# Altium footprint library WREL_AD10_Ben.PcbLib: 135 footprints (part 1 of 9)
Each footprint in its own frame and in the unit in brackets; x right, y up, seen from the top. Pads: shape width x height; smd on the part's side, far side on the other; paste and mask are expansions set on the pad; w line width, h text height; cw(c..) or ccw(c..) is an arc to the next point about the centre after c.
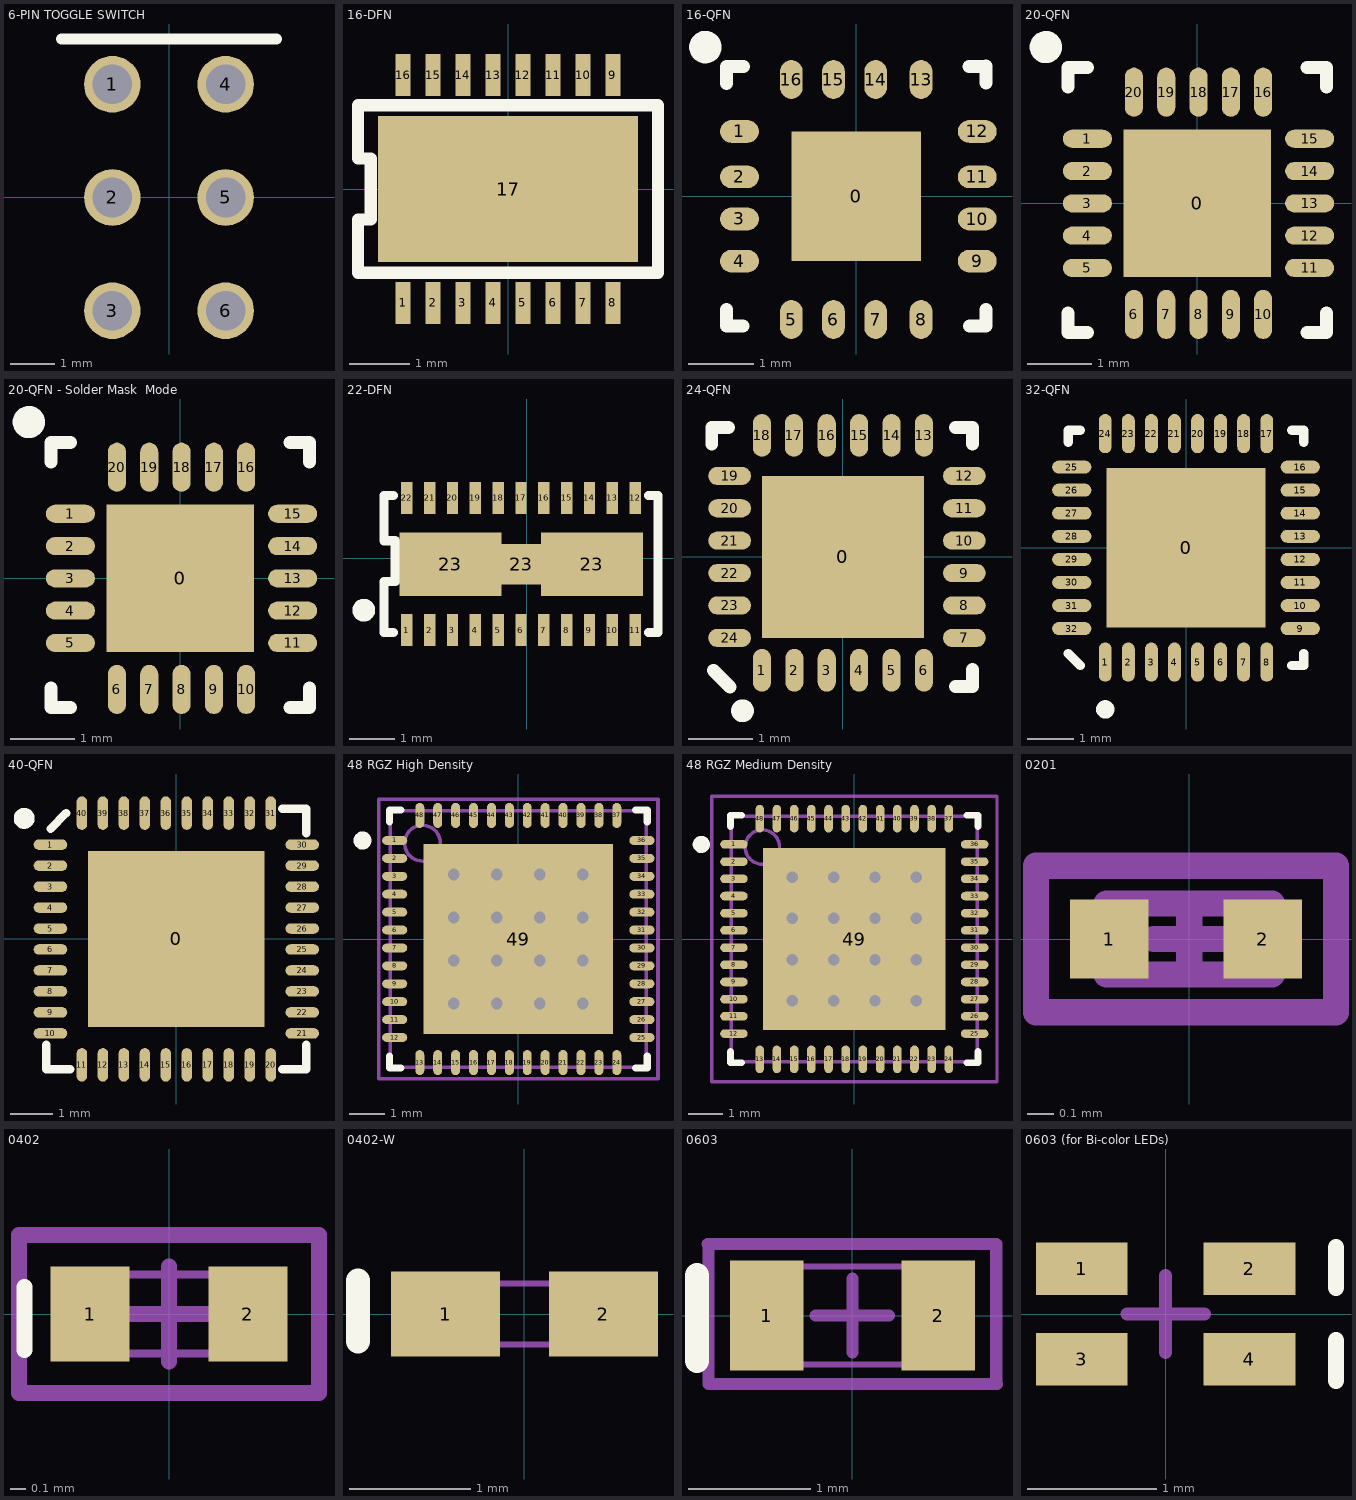
[diagram p0: the footprints below, top view; thin cyan lines are the x and y axes]

## 6-PIN TOGGLE SWITCH [mil] "6 PIN TOGGLE SWITCH"
pads (6):
  round 50 hole 35: 1(-50,100) 2(-50,0) 3(-50,-100) 4(50,100) 5(50,0) 6(50,-100)
Top Overlay:
  lines w10: -95,140 95,140

## 16-DFN [mm] "Tiny (6mm ?3mm ?0.75mm) 16-Pin DFN Package"
height 0.75
pads (17):
  rect 0.25x0.7 smd: 1(-1.75,-1.9) 2(-1.25,-1.9) 3(-0.75,-1.9) 4(-0.25,-1.9) 5(0.25,-1.9) 6(0.75,-1.9) 7(1.25,-1.9) 8(1.75,-1.9) 9(1.75,1.9) 10(1.25,1.9) 11(0.75,1.9) 12(0.25,1.9) 13(-0.25,1.9) 14(-0.75,1.9) 15(-1.25,1.9) 16(-1.75,1.9)
  rect 4.34x2.44 smd: 17(0,0)
Top Overlay:
  lines w0.203: -2.5,-1.397 -2.5,-0.508 -2.286,-0.508 -2.286,0.508 -2.5,0.508 -2.5,1.397 2.5,1.397 2.5,-1.397 -2.5,-1.397

## 16-QFN [mm] "16-QFN, LFCSP (CP-16-5) for ADXL330k"
pads (17):
  rect 2x2 smd: 0(0,0)
  oval 0.6x0.35 smd: 1(-1.8,1) 2(-1.8,0.3) 3(-1.8,-0.35) 4(-1.8,-1) 9(1.867,-1) 10(1.867,-0.35) 11(1.867,0.3) 12(1.867,1)
  oval 0.35x0.6 smd: 5(-1,-1.9) 6(-0.35,-1.9) 7(0.3,-1.9) 8(1,-1.9) 13(1,1.8) 14(0.3,1.8) 15(-0.35,1.8) 16(-1,1.8)
Top Overlay:
  circle w0.25: c-2.325,2.3 r0.125
  lines w0.2: -2,-1.746 -2,-2 -1.746,-2 ; -2,1.74 -2,2 -1.74,2 ; 1.74,2 2,2 ; 1.746,-2 2,-2 2,-1.746 ; 2,1.746 2,2.006

## 20-QFN [mm] "20 pin QFN as per CC2500 datasheet"
pads (21):
  rect 2.286x2.286 smd: 0(0,0)
  oval 0.76x0.28 smd: 1(-1.7,1) 2(-1.7,0.5) 3(-1.7,0) 4(-1.7,-0.5) 5(-1.7,-1) 11(1.74,-1) 12(1.74,-0.5) 13(1.74,0) 14(1.74,0.5) 15(1.74,1)
  oval 0.28x0.76 smd: 6(-0.98,-1.72) 7(-0.48,-1.72) 8(0.02,-1.72) 9(0.52,-1.72) 10(1.02,-1.72) 16(1.02,1.72) 17(0.52,1.72) 18(0.02,1.72) 19(-0.48,1.72) 20(-0.98,1.72)
Top Overlay:
  circle w0.25: c-2.344,2.419 r0.125
  lines w0.2: -2,-1.7 -2,-2 -1.7,-2 ; -2,1.8 -2,2.1 -1.7,2.1 ; 1.7,-2 2,-2 2,-1.7 ; 1.7,2.1 2,2.1 2,1.8
3D body: height 0.85, standoff 0, extent -2.007,-1.994 2.007,1.994

## 20-QFN - Solder Mask  Mode [mm] "20 pin QFN as per CC2500 datasheet"
pads (21):
  rect 2.286x2.286 smd paste-0.889 mask-0.762: 0(0,0)
  oval 0.76x0.28 smd: 1(-1.7,1) 2(-1.7,0.5) 3(-1.7,0) 4(-1.7,-0.5) 5(-1.7,-1) 11(1.74,-1) 12(1.74,-0.5) 13(1.74,0) 14(1.74,0.5) 15(1.74,1)
  oval 0.28x0.76 smd: 6(-0.98,-1.72) 7(-0.48,-1.72) 8(0.02,-1.72) 9(0.52,-1.72) 10(1.02,-1.72) 16(1.02,1.72) 17(0.52,1.72) 18(0.02,1.72) 19(-0.48,1.72) 20(-0.98,1.72)
Top Overlay:
  circle w0.25: c-2.344,2.419 r0.125
  lines w0.2: -2,-1.7 -2,-2 -1.7,-2 ; -2,1.8 -2,2.1 -1.7,2.1 ; 1.7,-2 2,-2 2,-1.7 ; 1.7,2.1 2,2.1 2,1.8
Top Paste:
  rectangle: -0.254,-1.016 0.254,1.016
  rectangle: -1.016,-0.254 1.016,0.254
Top Solder:
  rectangle: -1.143,-0.381 1.143,0.381
  rectangle: -0.381,-1.143 0.381,1.143

## 22-DFN [mm] "Tiny (6mm ?3mm ?0.75mm) 22-Pin DFN Package"
height 0.75
pads (25):
  rect 0.25x0.7 smd: 1(-2.63,-1.572) 2(-2.13,-1.572) 3(-1.63,-1.572) 4(-1.13,-1.572) 5(-0.63,-1.572) 6(-0.13,-1.572) 7(0.37,-1.572) 8(0.87,-1.572) 9(1.37,-1.572) 10(1.87,-1.572) 11(2.37,-1.572) 12(2.37,1.328) 13(1.87,1.328) 14(1.37,1.328) 15(0.87,1.328) 16(0.37,1.328) 17(-0.13,1.328) 18(-0.63,1.328) 19(-1.13,1.328) 20(-1.63,1.328) 21(-2.13,1.328) 22(-2.63,1.328)
  rect 2.231x1.4 smd: 23(-1.676,-0.127) 23(1.422,-0.127)
  rect 0.889x0.889 smd: 23(-0.127,-0.127)
Top Overlay:
  circle w0.25: c-3.573,-1.133 r0.125
  lines w0.203: -2.924,-1.622 -3.13,-1.622 -3.13,-0.503 -2.88,-0.503 -2.88,0.386 -3.13,0.386 -3.13,1.378 -2.924,1.378 ; 2.664,-1.622 2.87,-1.622 2.87,1.378 2.664,1.378
3D body: height 0.2, standoff 0, extent 2.235,-1.93 2.489,-1.219
3D body: height 0.2, standoff 0, extent 1.753,-1.93 2.007,-1.219
3D body: height 0.2, standoff 0, extent 1.245,-1.93 1.499,-1.219
3D body: height 0.2, standoff 0, extent 0.737,-1.93 0.991,-1.219
3D body: height 0.2, standoff 0, extent 0.254,-1.93 0.508,-1.219
3D body: height 0.2, standoff 0, extent -0.254,-1.93 0,-1.219
3D body: height 0.2, standoff 0, extent -0.762,-1.93 -0.508,-1.219
3D body: height 0.2, standoff 0, extent -1.27,-1.93 -1.016,-1.219
3D body: height 0.2, standoff 0, extent -1.753,-1.93 -1.499,-1.219
3D body: height 0.2, standoff 0, extent -2.261,-1.93 -2.007,-1.219
3D body: height 0.2, standoff 0, extent -2.769,-1.93 -2.515,-1.219
3D body: height 0.2, standoff 0, extent 2.235,0.965 2.489,1.676
3D body: height 0.2, standoff 0, extent 1.753,0.965 2.007,1.676
3D body: height 0.2, standoff 0, extent 1.245,0.965 1.499,1.676
3D body: height 0.2, standoff 0, extent 0.737,0.965 0.991,1.676
3D body: height 0.2, standoff 0, extent 0.229,0.965 0.483,1.676
3D body: height 0.2, standoff 0, extent -0.254,0.965 0,1.676
3D body: height 0.2, standoff 0, extent -0.762,0.965 -0.508,1.676
3D body: height 0.2, standoff 0, extent -1.27,0.965 -1.016,1.676
3D body: height 0.2, standoff 0, extent -1.753,0.965 -1.499,1.676
3D body: height 0.2, standoff 0, extent -2.261,0.965 -2.007,1.676
3D body: height 0.75, standoff 0.03, extent -3.124,-1.626 2.87,1.372
3D body: height 0.2, standoff 0, extent -2.769,0.965 -2.515,1.676

## 24-QFN [mm] "24-QFN, for MSP430Fx21x1"
height 1
pads (25):
  rect 2.5x2.5 smd: 0(0,0)
  oval 0.28x0.66 smd: 1(-1.25,-1.75) 2(-0.75,-1.75) 3(-0.25,-1.75) 4(0.25,-1.75) 5(0.75,-1.75) 6(1.25,-1.75) 13(1.25,1.875) 14(0.75,1.875) 15(0.25,1.875) 16(-0.25,1.875) 17(-0.757,1.875) 18(-1.25,1.875)
  oval 0.66x0.28 smd: 7(1.875,-1.25) 8(1.875,-0.75) 9(1.875,-0.25) 10(1.875,0.25) 11(1.875,0.75) 12(1.875,1.25) 19(-1.75,1.25) 20(-1.75,0.75) 21(-1.75,0.25) 22(-1.75,-0.25) 23(-1.75,-0.75) 24(-1.75,-1.25)
Top Overlay:
  circle w0.25: c-1.55,-2.375 r0.05
  lines w0.2: -2.025,1.74 -2.025,2 -1.765,2 ; -2,-1.75 -1.74,-2.01 ; 1.74,-2 2,-2 2,-1.74 ; 1.74,2 2,2 2,1.74

## 32-QFN [mm] "32-QFN, for MSP430F1232"
height 1
pads (33):
  rect 3.45x3.45 smd: 0(0,0)
  oval 0.28x0.85 smd: 1(-1.75,-2.475) 2(-1.25,-2.475) 3(-0.75,-2.475) 4(-0.25,-2.475) 5(0.25,-2.475) 6(0.75,-2.475) 7(1.25,-2.475) 8(1.75,-2.475) 17(1.75,2.475) 18(1.25,2.475) 19(0.75,2.475) 20(0.25,2.475) 21(-0.25,2.475) 22(-0.75,2.475) 23(-1.25,2.475) 24(-1.75,2.475)
  oval 0.85x0.28 smd: 9(2.475,-1.75) 10(2.475,-1.25) 11(2.475,-0.75) 12(2.475,-0.25) 13(2.475,0.25) 14(2.475,0.75) 15(2.475,1.25) 16(2.475,1.75) 25(-2.475,1.75) 26(-2.475,1.25) 27(-2.475,0.75) 28(-2.475,0.25) 29(-2.475,-0.25) 30(-2.475,-0.75) 31(-2.475,-1.25) 32(-2.475,-1.75)
Top Overlay:
  circle w0.2: c-1.75,-3.5 r0.1
  lines w0.2: -2.55,-2.29 -2.29,-2.55 ; -2.55,2.29 -2.55,2.55 -2.29,2.55 ; 2.29,-2.55 2.55,-2.55 2.55,-2.29 ; 2.29,2.55 2.55,2.55 2.55,2.29

## 40-QFN [mm] "40-QFN, for MSP430x22x2, x4"
height 1
pads (41):
  rect 4.2x4.2 smd: 0(0,0)
  oval 0.8x0.25 smd: 1(-3,2.25) 2(-3,1.75) 3(-3,1.25) 4(-3,0.75) 5(-3,0.25) 6(-3,-0.25) 7(-3,-0.75) 8(-3,-1.25) 9(-3,-1.75) 10(-3,-2.25) 21(3,-2.25) 22(3,-1.75) 23(3,-1.25) 24(3,-0.75) 25(3,-0.25) 26(3,0.25) 27(3,0.75) 28(3,1.25) 29(3,1.75) 30(3,2.25)
  oval 0.25x0.8 smd: 11(-2.25,-3) 12(-1.75,-3) 13(-1.25,-3) 14(-0.75,-3) 15(-0.25,-3) 16(0.25,-3) 17(0.75,-3) 18(1.25,-3) 19(1.75,-3) 20(2.25,-3) 31(2.25,3) 32(1.75,3) 33(1.25,3) 34(0.75,3) 35(0.25,3) 36(-0.25,3) 37(-0.75,3) 38(-1.25,3) 39(-1.75,3) 40(-2.25,3)
Top Overlay:
  circle w0.25: c-3.625,2.875 r0.125
  lines w0.2: -3.1,-2.525 -3.1,-3.1 -2.525,-3.1 ; -3,2.625 -2.625,3 ; 2.525,-3.1 3.1,-3.1 3.1,-2.525 ; 2.525,3.1 3.1,3.1 3.1,2.525
3D body: height 1, standoff 0, extent -3,-3 3,3

## 48 RGZ High Density [mm] "CC430F513x - QFN, 48-Leads, Body 7x7mm, Pitch 0.5mm, IPC High Density"
height 0.5
pads (49):
  oval 0.7x0.25 smd: 1(-3.45,2.75) 2(-3.45,2.25) 3(-3.45,1.75) 4(-3.45,1.25) 5(-3.45,0.75) 6(-3.45,0.25) 7(-3.45,-0.25) 8(-3.45,-0.75) 9(-3.45,-1.25) 10(-3.45,-1.75) 11(-3.45,-2.25) 12(-3.45,-2.75) 25(3.45,-2.75) 26(3.45,-2.25) 27(3.45,-1.75) 28(3.45,-1.25) 29(3.45,-0.75) 30(3.45,-0.25) 31(3.45,0.25) 32(3.45,0.75) 33(3.45,1.25) 34(3.45,1.75) 35(3.45,2.25) 36(3.45,2.75)
  oval 0.25x0.7 smd: 13(-2.75,-3.45) 14(-2.25,-3.45) 15(-1.75,-3.45) 16(-1.25,-3.45) 17(-0.75,-3.45) 18(-0.25,-3.45) 19(0.25,-3.45) 20(0.75,-3.45) 21(1.25,-3.45) 22(1.75,-3.45) 23(2.25,-3.45) 24(2.75,-3.45) 37(2.75,3.45) 38(2.25,3.45) 39(1.75,3.45) 40(1.25,3.45) 41(0.75,3.45) 42(0.25,3.45) 43(-0.25,3.45) 44(-0.75,3.45) 45(-1.25,3.45) 46(-1.75,3.45) 47(-2.25,3.45) 48(-2.75,3.45)
  rect 5.3x5.3 smd: 49(0,0)
via -1.8,1.8 diameter 0.66 hole 0.33
via -0.6,1.8 diameter 0.66 hole 0.33
via 0.6,1.8 diameter 0.66 hole 0.33
via 1.8,1.8 diameter 0.66 hole 0.33
via -1.8,0.6 diameter 0.66 hole 0.33
via -0.6,0.6 diameter 0.66 hole 0.33
via 0.6,0.6 diameter 0.66 hole 0.33
via 1.8,0.6 diameter 0.66 hole 0.33
via -1.8,-0.6 diameter 0.66 hole 0.33
via -0.6,-0.6 diameter 0.66 hole 0.33
via 0.6,-0.6 diameter 0.66 hole 0.33
via 1.8,-0.6 diameter 0.66 hole 0.33
via -1.8,-1.8 diameter 0.66 hole 0.33
via -0.6,-1.8 diameter 0.66 hole 0.33
via 0.6,-1.8 diameter 0.66 hole 0.33
via 1.8,-1.8 diameter 0.66 hole 0.33
Top Overlay:
  circle w0.25: c-4.35,2.75 r0.125
  lines w0.2: -3.6,-3.275 -3.6,-3.6 -3.275,-3.6 ; -3.6,3.275 -3.6,3.6 -3.275,3.6 ; 3.275,-3.6 3.6,-3.6 3.6,-3.275 ; 3.275,3.6 3.6,3.6 3.6,3.275
Mechanical 13:
  circle w0.1: c-2.675,2.675 r0.5
  lines w0.1: -3.575,-3.575 -3.575,3.575 3.575,3.575 3.575,-3.575 -3.575,-3.575
Mechanical 15:
  lines w0.1: -0.5,0 0.5,0 ; 0,-0.5 0,0.5 ; -3.9,-3.9 -3.9,3.9 3.9,3.9 3.9,-3.9 -3.9,-3.9
3D body: height 1, standoff 0, extent -3.575,-3.575 3.575,3.575

## 48 RGZ Medium Density [mm] "CC430F513x - QFN, 48-Leads, Body 7x7mm, Pitch 0.5mm, IPC Medium Density"
height 0.5
pads (49):
  oval 0.8x0.25 smd: 1(-3.5,2.75) 2(-3.5,2.25) 3(-3.5,1.75) 4(-3.5,1.25) 5(-3.5,0.75) 6(-3.5,0.25) 7(-3.5,-0.25) 8(-3.5,-0.75) 9(-3.5,-1.25) 10(-3.5,-1.75) 11(-3.5,-2.25) 12(-3.5,-2.75) 25(3.5,-2.75) 26(3.5,-2.25) 27(3.5,-1.75) 28(3.5,-1.25) 29(3.5,-0.75) 30(3.5,-0.25) 31(3.5,0.25) 32(3.5,0.75) 33(3.5,1.25) 34(3.5,1.75) 35(3.5,2.25) 36(3.5,2.75)
  oval 0.25x0.8 smd: 13(-2.75,-3.5) 14(-2.25,-3.5) 15(-1.75,-3.5) 16(-1.25,-3.5) 17(-0.75,-3.5) 18(-0.25,-3.5) 19(0.25,-3.5) 20(0.75,-3.5) 21(1.25,-3.5) 22(1.75,-3.5) 23(2.25,-3.5) 24(2.75,-3.5) 37(2.75,3.5) 38(2.25,3.5) 39(1.75,3.5) 40(1.25,3.5) 41(0.75,3.5) 42(0.25,3.5) 43(-0.25,3.5) 44(-0.75,3.5) 45(-1.25,3.5) 46(-1.75,3.5) 47(-2.25,3.5) 48(-2.75,3.5)
  rect 5.3x5.3 smd: 49(0,0)
via 1.8,-1.8 diameter 0.66 hole 0.33
via 0.6,-1.8 diameter 0.66 hole 0.33
via -0.6,-1.8 diameter 0.66 hole 0.33
via -1.8,-1.8 diameter 0.66 hole 0.33
via 1.8,-0.6 diameter 0.66 hole 0.33
via 0.6,-0.6 diameter 0.66 hole 0.33
via -0.6,-0.6 diameter 0.66 hole 0.33
via -1.8,-0.6 diameter 0.66 hole 0.33
via 1.8,0.6 diameter 0.66 hole 0.33
via 0.6,0.6 diameter 0.66 hole 0.33
via -0.6,0.6 diameter 0.66 hole 0.33
via -1.8,0.6 diameter 0.66 hole 0.33
via 1.8,1.8 diameter 0.66 hole 0.33
via 0.6,1.8 diameter 0.66 hole 0.33
via -0.6,1.8 diameter 0.66 hole 0.33
via -1.8,1.8 diameter 0.66 hole 0.33
Top Overlay:
  circle w0.25: c-4.45,2.75 r0.125
  lines w0.2: -3.6,-3.275 -3.6,-3.6 -3.275,-3.6 ; -3.6,3.275 -3.6,3.6 -3.275,3.6 ; 3.275,-3.6 3.6,-3.6 3.6,-3.275 ; 3.275,3.6 3.6,3.6 3.6,3.275
Mechanical 13:
  circle w0.1: c-2.675,2.675 r0.5
  lines w0.1: -3.575,-3.575 3.575,-3.575 3.575,3.575 -3.575,3.575 -3.575,-3.575
Mechanical 15:
  lines w0.1: -0.5,0 0.5,0 ; 0,-0.5 0,0.5 ; -4.15,-4.15 4.15,-4.15 4.15,4.15 -4.15,4.15 -4.15,-4.15
3D body: height 1, standoff 0, extent -3.575,-3.575 3.575,3.575

## 0201 [mm] "0201"
height 0.26
pads (2):
  rect 0.3x0.3 smd: 1(-0.305,0) 2(0.279,0)
Mechanical 13:
  lines w0.1: -0.315,-0.135 -0.315,0.135 0.315,0.135 0.315,-0.135 -0.315,-0.135
Mechanical 15:
  lines w0.1: -0.135,0 0.135,0 ; 0,-0.135 0,0.135 ; -0.584,-0.279 -0.584,0.279 0.559,0.279 0.559,-0.279 -0.584,-0.279
3D body: height 0.26, standoff 0, extent -0.315,-0.135 0.315,0.135

## 0402 [mm] "Surface Mount; Body 1 x 0.5 mm (LxW typ)"
height 0.5
pads (2):
  rect 0.5x0.6 smd: 1(-0.5,0) 2(0.5,0)
Top Overlay:
  lines w0.1: -0.914,-0.229 -0.914,0.171
Mechanical 13:
  lines w0.051: -0.5,-0.25 -0.5,0.25 0.5,0.25 0.5,-0.25 -0.5,-0.25
Mechanical 15:
  lines w0.1: -0.3,0 0.3,0 ; 0,-0.3 0,0.3 ; -0.95,-0.5 0.95,-0.5 0.95,0.5 -0.95,0.5 -0.95,-0.5
3D body: height 0.5, standoff 0, extent -0.5,-0.25 0.5,0.25

## 0402-W [mm] "Surface Mount - Wide; Body 1.0 x 0.5 mm (LxW typ)"
height 0.5
pads (2):
  rect 0.9x0.7 smd: 1(-0.65,0) 2(0.65,0)
Top Overlay:
  lines w0.2: -1.372,-0.225 -1.372,0.275
Mechanical 13:
  lines w0.051: -0.5,-0.25 -0.5,0.25 0.5,0.25 0.5,-0.25 -0.5,-0.25
3D body: height 0.5, standoff 0, extent -0.5,-0.25 0.5,0.25

## 0603 [mm] "Surface Mount; Body 1.6 x 0.8 mm (LxW typ)"
height 0.8
pads (2):
  rect 0.6x0.9 smd: 1(-0.7,0) 2(0.7,0)
Top Overlay:
  lines w0.2: -1.27,-0.37 -1.27,0.33
Mechanical 13:
  lines w0.051: -0.8,-0.4 0.8,-0.4 0.8,0.4 -0.8,0.4 -0.8,-0.4
Mechanical 15:
  lines w0.1: -1.182,0.584 1.168,0.584 ; -1.175,-0.559 -1.175,0.559 ; -1.168,-0.559 1.182,-0.559 ; -0.3,0 0.3,0 ; 0,-0.3 0,0.3 ; 1.175,-0.559 1.175,0.584
3D body: height 0.8, standoff 0, extent -0.8,-0.4 0.8,0.4

## 0603 (for Bi-color LEDs) [mm] "Miniature Bi-Color Surface Mount ChipLEDs"
height 0.5
pads (4):
  rect 0.711x0.406 smd: 1(-0.65,0.35) 2(0.65,0.35) 3(-0.65,-0.35) 4(0.65,-0.35)
Top Overlay:
  lines w0.127: 1.321,-0.517 1.321,-0.203 ; 1.321,0.203 1.321,0.517
Mechanical 15:
  lines w0.1: -0.3,0 0.3,0 ; 0,-0.3 0,0.3
3D body: height 0.5, standoff 0, extent -0.813,-0.406 0.813,0.406